# EAGLE library part MAX44007 (library machine_science2)
Low-Power Digital Ambient Light Sensor with Enhanced Sensitivity
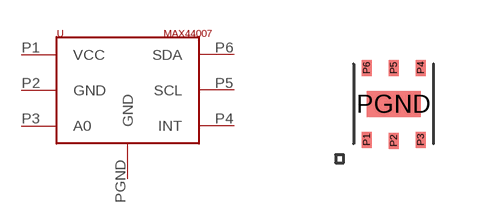
[diagram p6: symbol with the pads of MAX44007; footprint MAX44007]

Designator prefix -

## MAX44007  [MAX44007]
P1  VCC
P2  GND  pwr
P3  A0
P4  INT
P5  SCL
P6  SDA
PGND  GND  pwr

## Footprint MAX44007 (pad centres in mm)
smd 0.25 x 0.4: P1 -0.675,-0.9; P2 0,-0.925; P3 0.675,-0.9; P4 0.675,0.9; P5 0,0.9; P6 -0.675,0.9
smd 1.35 x 0.65: PGND 0,0